# Altium footprint library Mixed_Signal_Board.PcbLib: 37 footprints (part 3 of 3)
Each footprint in its own frame and in the unit in brackets; x right, y up, seen from the top. Pads: shape width x height; smd on the part's side, far side on the other; paste and mask are expansions set on the pad; w line width, h text height; cw(c..) or ccw(c..) is an arc to the next point about the centre after c.
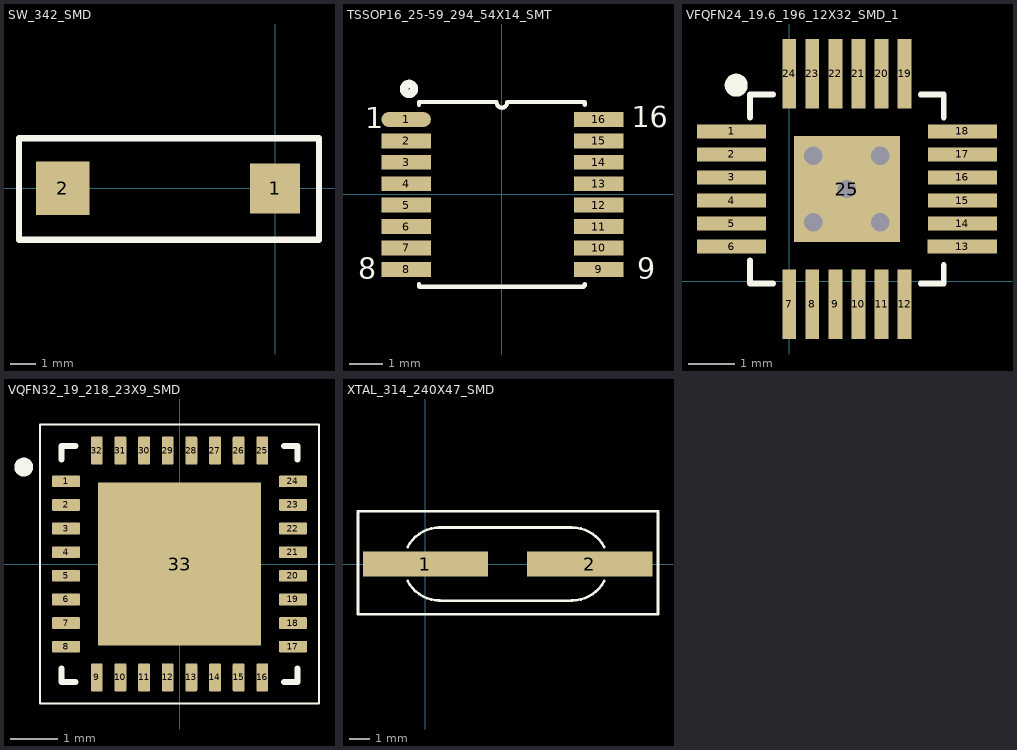
[diagram p2: the footprints below, top view; thin cyan lines are the x and y axes]

## SW_342_SMD [mm]
pads (2):
  rect 2x2 smd: 1(0,0)
  rect 2.15x2.15 smd: 2(-8.5,0)
Top Overlay:
  lines w0.254: -10.25,-2.057 1.75,-2.057 1.75,2 -10.25,2 -10.25,-2.057
3D body: height 2.4, standoff 0.1, extent -7.171,-1.793 -1.171,1.707

## TSSOP16_25-59_294_54X14_SMT [mm]
pads (16):
  oval 1.5x0.45 smd mask+0.076: 1(-2.908,2.273)
  rect 1.5x0.45 smd mask+0.076: 2(-2.908,1.623) 3(-2.908,0.973) 4(-2.908,0.323) 5(-2.908,-0.327) 6(-2.908,-0.977) 7(-2.908,-1.627) 8(-2.908,-2.277) 9(2.942,-2.277) 10(2.942,-1.627) 11(2.942,-0.977) 12(2.942,-0.327) 13(2.942,0.323) 14(2.942,0.973) 15(2.942,1.623) 16(2.942,2.273)
Top Overlay:
  circle w0.254: c-2.819,3.2 r0.152
  lines w0.127: -2.515,-2.718 -2.515,-2.794 -2.502,-2.807 2.477,-2.807 2.515,-2.769 2.515,-2.718 ; -2.515,2.718 -2.515,2.794 ; -2.515,2.807 -0.164,2.807 ; -0.162,2.796 ccw(c0,2.794) 0.163,2.794 ; 0.164,2.807 2.502,2.807 2.515,2.794 2.515,2.718
  text "8" at -4.369,-2.565 h0.64
  text "9" at 4.103,-2.561 h0.64
  text "16" at 3.937,2.032 h0.64
  text "1" at -4.152,2.011 h0.64
3D body "TSSOP-16 5_1x4_4.STEP": height 1.2, standoff 0.1, extent -3.2,-2.55 3.2,2.55

## VFQFN24_19.6_196_12X32_SMD_1 [mm]
pads (25):
  rect 1.5x0.3 smd mask+0.076: 1(-1.25,3.25) 2(-1.25,2.75) 3(-1.25,2.25) 4(-1.25,1.75) 5(-1.25,1.25) 6(-1.25,0.75) 13(3.75,0.75) 14(3.754,1.25) 15(3.754,1.75) 16(3.754,2.25) 17(3.754,2.75) 18(3.754,3.25)
  rect 0.3x1.5 smd mask+0.076: 7(0,-0.5) 8(0.5,-0.5) 9(1,-0.5) 10(1.5,-0.5) 11(2,-0.5) 12(2.5,-0.5) 19(2.5,4.5) 20(2,4.5) 21(1.5,4.5) 22(1,4.5) 23(0.5,4.5) 24(0,4.5)
  rect 2.3x2.3 smd mask+0.076: 25(1.25,2)
via 1.975,2.725 diameter 0.8 hole 0.4
via 1.25,2 diameter 0.8 hole 0.4
via 0.525,2.725 diameter 0.8 hole 0.4
via 0.525,1.275 diameter 0.8 hole 0.4
via 1.975,1.275 diameter 0.8 hole 0.4
Top Overlay:
  lines w0.127: -0.85,0.45 -0.85,-0.05 -0.35,-0.05 ; -0.85,3.55 -0.85,4.05 -0.45,4.05 -0.35,4.05 ; 2.85,-0.05 3.35,-0.05 3.35,0.35 ; 2.85,4.05 3.35,4.05 3.35,3.55
  lines w0.25: -1.033,4.294 ccw(c-1.15,4.25) -1.025,4.25
3D body "DRV8701PRGET.stp": height 1, standoff 0, extent -0.8,-0.05 3.3,4.05

## VQFN32_19_218_23X9_SMD [mm]
pads (33):
  rrect25% 0.6x0.25 smd mask+0: 1(-2.4,1.75) 2(-2.4,1.25) 3(-2.4,0.75) 4(-2.4,0.25) 5(-2.4,-0.25) 6(-2.4,-0.75) 7(-2.4,-1.25) 8(-2.4,-1.75) 17(2.4,-1.75) 18(2.4,-1.25) 19(2.4,-0.75) 20(2.4,-0.25) 21(2.4,0.25) 22(2.4,0.75) 23(2.4,1.25) 24(2.4,1.75)
  rrect25% 0.25x0.6 smd mask+0: 9(-1.75,-2.4) 10(-1.25,-2.4) 11(-0.75,-2.4) 12(-0.25,-2.4) 13(0.25,-2.4) 14(0.75,-2.4) 15(1.25,-2.4) 16(1.75,-2.4) 25(1.75,2.4) 26(1.25,2.4) 27(0.75,2.4) 28(0.25,2.4) 29(-0.25,2.4) 30(-0.75,2.4) 31(-1.25,2.4) 32(-1.75,2.4)
  rect 3.45x3.45 smd paste-3 mask+0: 33(0,0)
Top Overlay:
  circle w0.2: c-3.295,2.05 r0.1
  lines w0.05: -2.95,-2.95 2.95,-2.95 2.95,2.95 -2.95,2.95 -2.95,-2.95
  lines w0.127: -2.5,-2.205 -2.5,-2.5 -2.205,-2.5 ; -2.5,2.205 -2.5,2.5 -2.205,2.5 ; 2.205,-2.5 2.5,-2.5 2.5,-2.205 ; 2.205,2.5 2.5,2.5 2.5,2.205
Top Paste:
  region: 1.59,-1.59 0.1,-1.59 0.1,-0.1 1.59,-0.1
  region: -0.1,-1.59 -1.59,-1.59 -1.59,-0.1 -0.1,-0.1
  region: 1.59,0.1 0.1,0.1 0.1,1.59 1.59,1.59
  region: -0.1,0.1 -1.59,0.1 -1.59,1.59 -0.1,1.59
Top Solder:
  drawing of 33 lines, arcs and shapes, not listed
3D body "User Library-VQFN-32.step": height 1.01, standoff 0, extent -2.56,-2.56 2.56,2.56

## XTAL_314_240X47_SMD [mm]
pads (2):
  rect 6.096x1.2 smd: 1(0,0) 2(8,0)
Top Overlay:
  lines w0.127: -0.873,-0.825 ccw(c0.702,0) 0.702,-1.778 ; -0.873,0.825 cw(c0.702,0) 0.702,1.778 ; 0.651,-1.787 7.137,-1.787 ; 0.651,1.778 7.128,1.778 cw(c7.128,0) 8.703,0.825 ; 7.128,-1.778 ccw(c7.128,0) 8.703,-0.825 ; -3.286,-2.438 -3.286,2.565 11.319,2.565 11.319,-2.438 -3.286,-2.438
3D body: height 0.51, standoff 0, extent -1.902,-2.273 9.795,2.413
3D body: height 1.02, standoff 0, extent 8.004,-2.273 9.808,-1.003
3D body: height 1.02, standoff 0, extent -1.902,-2.273 -0.098,-1.003
3D body: height 1.02, standoff 0, extent 7.992,1.143 9.795,2.413
3D body: height 1.02, standoff 0, extent -1.889,1.143 -0.086,2.413
3D body: height 0.25, standoff 0, extent 9.579,-0.419 10.9,0.394
3D body: height 0.25, standoff 0, extent -2.994,-0.419 -1.673,0.394
3D body: height 3.05, standoff 0, extent -1.076,-1.778 8.881,1.778